# Altium integrated library C1206C105K4RACTU.IntLib: 1 symbol
Pins are listed as number, name and electrical type; pins without a type are passive.

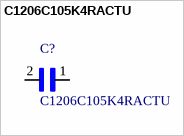
[diagram p0: symbol C1206C105K4RACTU]

## C1206C105K4RACTU
designator C?
/ Capacitor; Ceramic; Cap; 1.00uf ; Tol+10%; Smd; Vol-Rtg 16v; High Cap. ; X7r /; MF: KEMET; MP: C1206C105K4RACTU; SnapEDA_Link: https://www.snapeda.com/parts/C1206C105K4RACTU/KEMET/view-part/?ref=snap; Price: None; Package: 1206 Kemet; Availability: Unavailable; Value: *
footprint *CAPC3216X110N
pins: 1, 2